# Altium footprint library rookieboard_footprints.PcbLib: 22 footprints (part 2 of 2)
Each footprint in its own frame and in the unit in brackets; x right, y up, seen from the top. Pads: shape width x height; smd on the part's side, far side on the other; paste and mask are expansions set on the pad; w line width, h text height; cw(c..) or ccw(c..) is an arc to the next point about the centre after c.
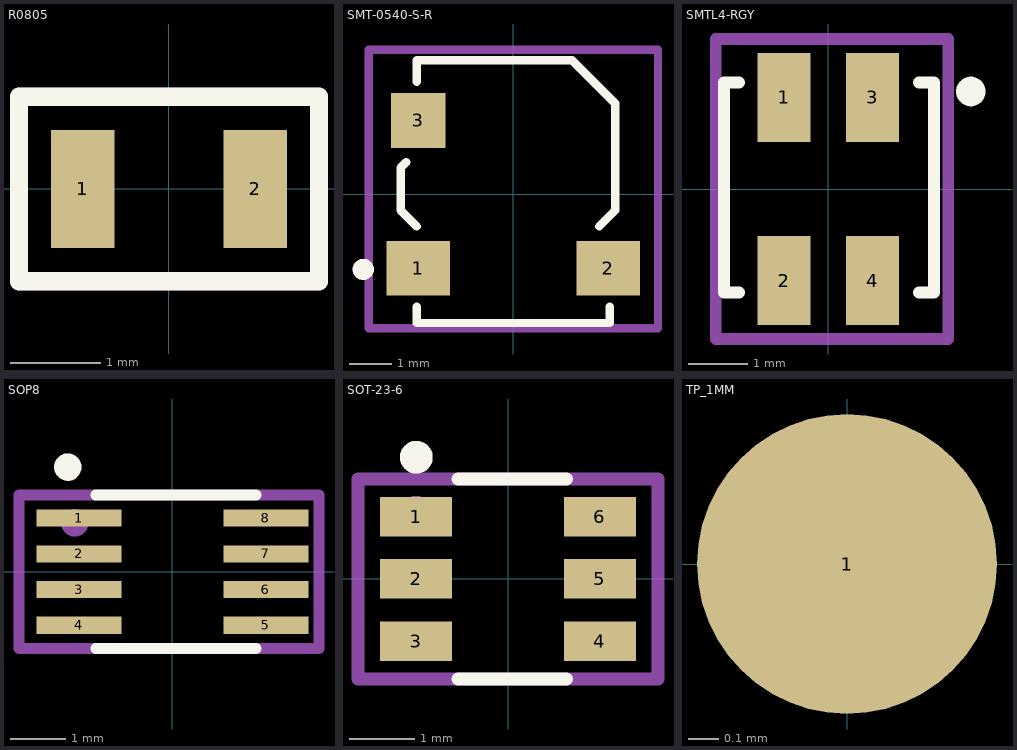
[diagram p1: the footprints below, top view; thin cyan lines are the x and y axes]

## R0805 [mm]
pads (2):
  rect 0.7x1.3 smd: 1(-0.95,0) 2(0.95,0)
Top Overlay:
  lines w0.2: -1.651,-1.016 -1.651,1.016 1.651,1.016 1.651,-1.016 -1.651,-1.016
Mechanical 29:
  lines w0.2: -1.651,-1.016 1.651,-1.016 1.651,1.016 -1.651,1.016 -1.651,-1.016
  text ".Designator" at -0.762,-0.254 h0.6

## SMT-0540-S-R [mm]
pads (3):
  rect 1.5x1.3 smd: 1(-2.25,-1.75) 2(2.25,-1.75)
  rect 1.3x1.3 smd: 3(-2.25,1.75)
Top Overlay:
  circle w0.25: c-3.554,-1.778 r0.125
  lines w0.2: -2.54,0.762 -2.667,0.635 -2.667,-0.381 -2.286,-0.762 ; -2.286,-2.667 -2.286,-3.048 2.286,-3.048 2.286,-2.667 ; -2.286,2.667 -2.286,3.175 1.397,3.175 2.413,2.159 2.413,-0.381 2.032,-0.762
Mechanical 29:
  circle w0.25: c-2.286,-1.778 r0.125
  lines w0.2: -3.429,-3.175 3.429,-3.175 3.429,3.429 -3.429,3.429 -3.429,-3.175
  text ".Designator" at -1.397,-0.254 h1.5

## SMTL4-RGY [mm]
pads (4):
  rect 0.9x1.5 smd: 1(-0.75,1.55) 2(-0.75,-1.55) 3(0.75,1.55) 4(0.75,-1.55)
Top Overlay:
  circle w0.25: c2.413,1.651 r0.125
  lines w0.2: -1.512,-1.752 -1.766,-1.752 -1.766,1.804 -1.512,1.804 ; 1.536,-1.752 1.79,-1.752 1.79,1.804 1.536,1.804
Mechanical 29:
  circle w0.25: c0.889,1.778 r0.125
  lines w0.2: -1.905,-2.54 -1.905,2.54 2.032,2.54 2.032,-2.54 -1.905,-2.54
  text ".Designator" at -1.143,-0.762 h1.5

## SOP8 [mm]
pads (8):
  rect 1.55x0.31 smd mask+0.07: 1(-1.7,0.975) 2(-1.7,0.325) 3(-1.7,-0.325) 4(-1.7,-0.975) 5(1.7,-0.975) 6(1.7,-0.325) 7(1.7,0.325) 8(1.7,0.975)
Top Overlay:
  circle w0.25: c-1.905,1.905 r0.125
  lines w0.2: -1.397,-1.397 1.524,-1.397 ; -1.397,1.397 1.524,1.397
Mechanical 29:
  circle w0.25: c-1.778,0.889 r0.125
  lines w0.2: -2.794,-1.397 -2.794,1.397 -1.397,1.397 2.667,1.397 2.667,-1.397 -2.794,-1.397
  text ".Designator" at -1.651,-0.762 h1.5

## SOT-23-6 [mm]
pads (6):
  rect 1.1x0.6 smd mask+0.05: 1(-1.4,0.95) 2(-1.4,0) 3(-1.4,-0.95) 4(1.4,-0.95) 5(1.4,0) 6(1.4,0.95)
Top Overlay:
  circle w0.25: c-1.397,1.854 r0.125
  lines w0.2: -0.762,-1.524 0.889,-1.524 ; -0.762,1.524 0.889,1.524
Mechanical 29:
  circle w0.25: c-1.397,1.016 r0.125
  lines w0.2: -2.286,-1.524 2.286,-1.524 2.286,1.524 -2.286,1.524 -2.286,-1.524
  text ".Designator" at -0.508,-0.254 h0.7

## TP_1MM [mm]
pads (1):
  round 1 smd paste-1: 1(0,0)